# Altium integrated library B3F-4055.IntLib: 1 symbol
Pins are listed as number, name and electrical type; pins without a type are passive.

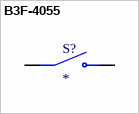
[diagram p0: symbol B3F-4055]

## B3F-4055
designator S?
MP: B3F-4055; Price: None; Availability: Unavailable; Value: *; Package: None
footprint SW_B3F-4055
pins: 1 COM, 2 COM, 3 NO, 4 NO